# Altium integrated library TI Logic Buffer Line Driver.IntLib: 1053 symbols (part 6 of 17)
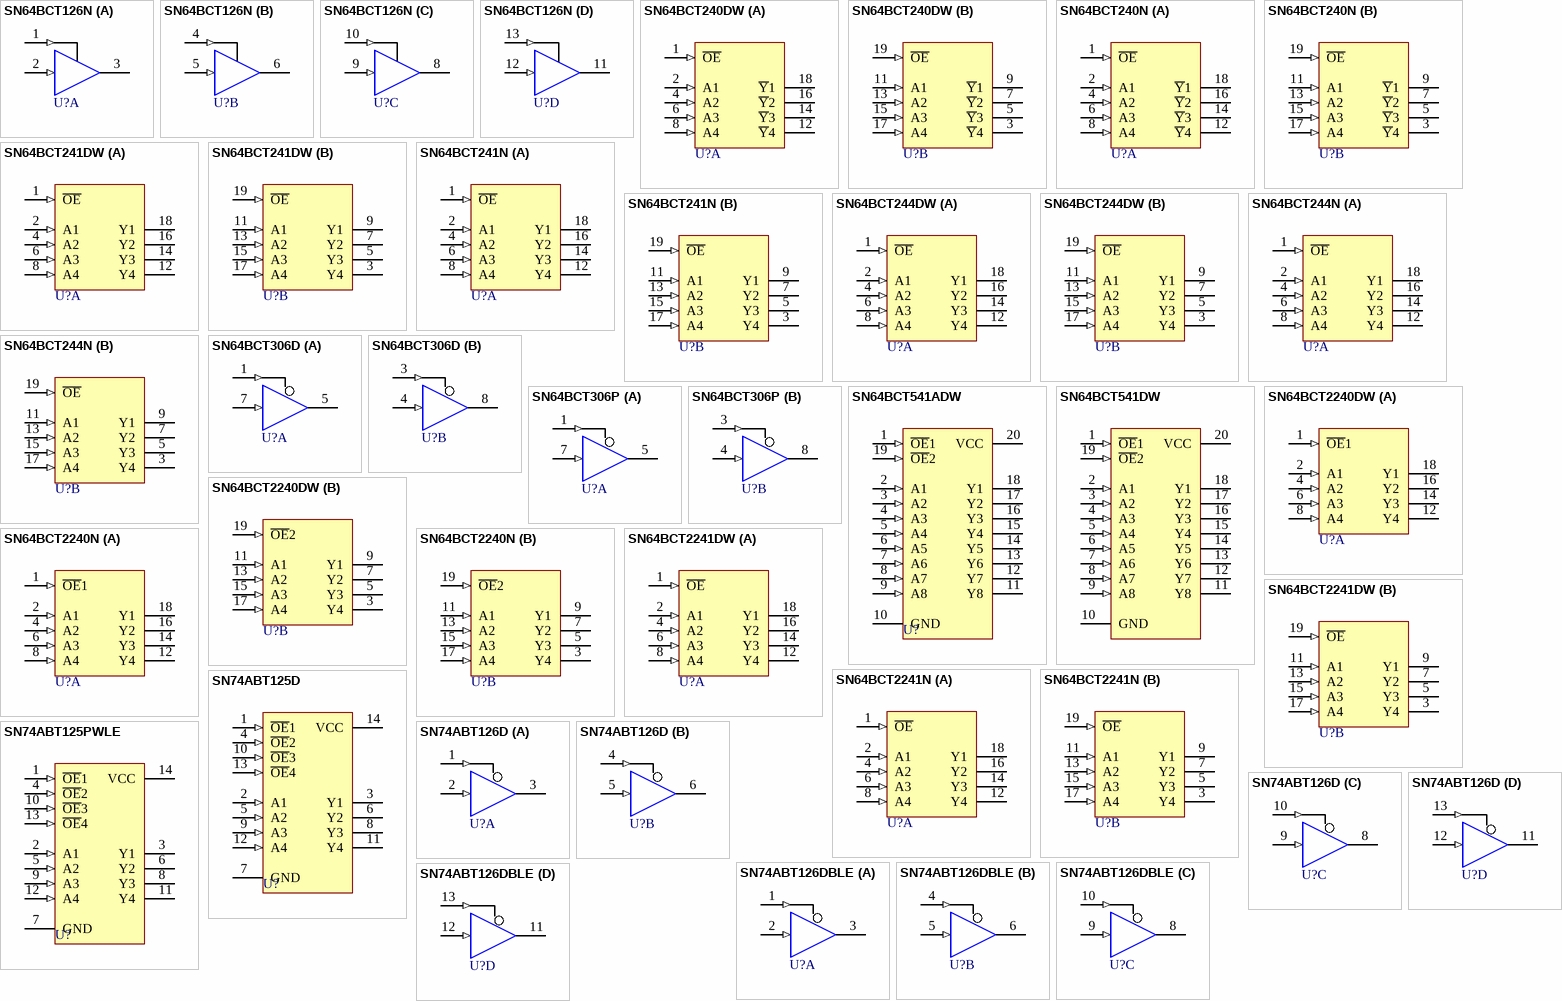
[diagram p50: symbols SN64BCT126N to SN74ABT126DBLE]

## SN64BCT541DW
designator ?
Octal Buffer/Driver with 3-State Outputs; Package Information: Latest Revision: Mar-2000; Code - JEDEC: MS-013; Published: 8-Jun-2000; Revision: 17-Jul-2002: Re-released for DXP Platform.; Datasheet: Latest Revision: Nov-1993; Package Reference: DW020; Publisher: Altium Limited
footprint DW020 (Plastic Small Outline; 20 Leads; Body Width 7.5 mm)
pins: 1 ~{OE}1 (in), 2 A1 (in), 3 A2 (in), 4 A3 (in), 5 A4 (in), 6 A5 (in), 7 A6 (in), 8 A7 (in), 9 A8 (in), 10 GND (power), 11 Y8 (hiz), 12 Y7 (hiz), 13 Y6 (hiz), 14 Y5 (hiz), 15 Y4 (hiz), 16 Y3 (hiz), 17 Y2 (hiz), 18 Y1 (hiz), 19 ~{OE}2 (in), 20 VCC (power)

## SN64BCT2240DW
designator U?
Octal Buffer and Line/MOS Driver with 3-State Outputs; Package Information: Latest Revision: Mar-2000; Code - JEDEC: MS-013; Published: 8-Jun-2000; Revision: 17-Jul-2002: Re-released for DXP Platform.; Datasheet: Latest Revision: Nov-1993; Package Reference: DW020; Publisher: Altium Limited
footprint DW020 (Plastic Small Outline; 20 Leads; Body Width 7.5 mm)
pins on every part: 10 GND (power) hidden to GND, 20 VCC (power) hidden to VCC
part A pins: 1 ~{OE}1 (in), 2 A1 (in), 4 A2 (in), 6 A3 (in), 8 A4 (in), 12 Y4 (hiz), 14 Y3 (hiz), 16 Y2 (hiz), 18 Y1 (hiz)
part B pins: 3 Y4 (hiz), 5 Y3 (hiz), 7 Y2 (hiz), 9 Y1 (hiz), 11 A1 (in), 13 A2 (in), 15 A3 (in), 17 A4 (in), 19 ~{OE}2 (in)

## SN64BCT2240N
designator U?
Octal Buffer and Line/MOS Driver with 3-State Outputs; Package Information: Latest Revision: Oct-1995; Published: 8-Jun-2000; Revision: 17-Jul-2002: Re-released for DXP Platform.; Datasheet: Latest Revision: Nov-1993; Package Reference: N020; Publisher: Altium Limited
footprint N020 (DIP; 20 Leads; Row Spacing 7.62 mm; Pitch 2.54 mm)
pins on every part: 10 GND (power) hidden to GND, 20 VCC (power) hidden to VCC
part A pins: 1 ~{OE}1 (in), 2 A1 (in), 4 A2 (in), 6 A3 (in), 8 A4 (in), 12 Y4 (hiz), 14 Y3 (hiz), 16 Y2 (hiz), 18 Y1 (hiz)
part B pins: 3 Y4 (hiz), 5 Y3 (hiz), 7 Y2 (hiz), 9 Y1 (hiz), 11 A1 (in), 13 A2 (in), 15 A3 (in), 17 A4 (in), 19 ~{OE}2 (in)

## SN64BCT2241DW
designator U?
Octal Buffer and Line/MOS Driver with 3-State Outputs; Package Information: Latest Revision: Mar-2000; Code - JEDEC: MS-013; Published: 8-Jun-2000; Revision: 17-Jul-2002: Re-released for DXP Platform.; Datasheet: Latest Revision: Nov-1993; Package Reference: DW020; Publisher: Altium Limited
footprint DW020 (Plastic Small Outline; 20 Leads; Body Width 7.5 mm)
pins on every part: 10 GND (power) hidden to GND, 20 VCC (power) hidden to VCC
part A pins: 1 ~{OE} (in), 2 A1 (in), 4 A2 (in), 6 A3 (in), 8 A4 (in), 12 Y4 (hiz), 14 Y3 (hiz), 16 Y2 (hiz), 18 Y1 (hiz)
part B pins: 3 Y4 (hiz), 5 Y3 (hiz), 7 Y2 (hiz), 9 Y1 (hiz), 11 A1 (in), 13 A2 (in), 15 A3 (in), 17 A4 (in), 19 ~{OE} (in)

## SN64BCT2241N
designator U?
Octal Buffer and Line/MOS Driver with 3-State Outputs; Package Information: Latest Revision: Oct-1995; Published: 8-Jun-2000; Revision: 17-Jul-2002: Re-released for DXP Platform.; Datasheet: Latest Revision: Nov-1993; Package Reference: N020; Publisher: Altium Limited
footprint N020 (DIP; 20 Leads; Row Spacing 7.62 mm; Pitch 2.54 mm)
pins on every part: 10 GND (power) hidden to GND, 20 VCC (power) hidden to VCC
part A pins: 1 ~{OE} (in), 2 A1 (in), 4 A2 (in), 6 A3 (in), 8 A4 (in), 12 Y4 (hiz), 14 Y3 (hiz), 16 Y2 (hiz), 18 Y1 (hiz)
part B pins: 3 Y4 (hiz), 5 Y3 (hiz), 7 Y2 (hiz), 9 Y1 (hiz), 11 A1 (in), 13 A2 (in), 15 A3 (in), 17 A4 (in), 19 ~{OE} (in)

## SN74ABT125D
designator U?
Quadruple Bus Buffer Gate with 3-State Outputs; Package Information: Latest Revision: Jan-1998; Published: 8-Jun-2000; Revision: 17-Jul-2002: Re-released for DXP Platform.; Datasheet: Latest Revision: May-1997; Package Reference: D014; Publisher: Altium Limited
footprint D014 (Small Outline; 14 Leads; Body Width 3.9 mm; Pitch 1.27 mm)
signal-integrity model SN74ABT125D
pins: 1 ~{OE}1 (in), 2 A1 (in), 3 Y1 (hiz), 4 ~{OE}2 (in), 5 A2 (in), 6 Y2 (hiz), 7 GND (power), 8 Y3 (hiz), 9 A3 (in), 10 ~{OE}3 (in), 11 Y4 (hiz), 12 A4 (in), 13 ~{OE}4 (in), 14 VCC (power)

## SN74ABT125PWLE
designator U?
Quadruple Bus Buffer Gate with 3-State Outputs; Package Information: Latest Revision: Feb-1999; Published: 8-Jun-2000; Revision: 17-Jul-2002: Re-released for DXP Platform.; Datasheet: Latest Revision: May-1997; Package Reference: PW014; Publisher: Altium Limited
footprint PW014 (Shrink Small Outline; 14 Leads; Body Width 4.4 mm; Pitch 0.65 mm)
signal-integrity model SN74ABT125PWLE
pins: 1 ~{OE}1 (in), 2 A1 (in), 3 Y1 (hiz), 4 ~{OE}2 (in), 5 A2 (in), 6 Y2 (hiz), 7 GND (power), 8 Y3 (hiz), 9 A3 (in), 10 ~{OE}3 (in), 11 Y4 (hiz), 12 A4 (in), 13 ~{OE}4 (in), 14 VCC (power)

## SN74ABT126D
designator U?
Quadruple Bus Buffer Gate with 3-State Outputs; Package Information: Latest Revision: Jan-1998; Published: 8-Jun-2000; Revision: 17-Jul-2002: Re-released for DXP Platform.; Datasheet: Latest Revision: Jan-1999; Package Reference: D014; Publisher: Altium Limited
footprint D014 (Small Outline; 14 Leads; Body Width 3.9 mm; Pitch 1.27 mm)
signal-integrity model SN74ABT126D
pins on every part: 7 GND (power) hidden to GND, 14 VCC (power) hidden to VCC
part A pins: 1 OE (in), 2 A (in), 3 Y (hiz)
part B pins: 4 OE (in), 5 A (in), 6 Y (hiz)
part C pins: 8 Y (hiz), 9 A (in), 10 OE (in)
part D pins: 11 Y (hiz), 12 A (in), 13 OE (in)

## SN74ABT126DBLE
designator U?
Quadruple Bus Buffer Gate with 3-State Outputs; Package Information: Latest Revision: May-1999; Code - JEDEC: MO-150-AB; Published: 8-Jun-2000; Revision: 17-Jul-2002: Re-released for DXP Platform.; Datasheet: Latest Revision: Jan-1999; Package Reference: DB014; Publisher: Altium Limited
footprint DB014 (Plastic SSOP; 14 Leads; Body Width 5.3 mm; Pitch 0.65 mm)
signal-integrity model SN74ABT126DBLE
pins on every part: 7 GND (power) hidden to GND, 14 VCC (power) hidden to VCC
part A pins: 1 OE (in), 2 A (in), 3 Y (hiz)
part B pins: 4 OE (in), 5 A (in), 6 Y (hiz)
part C pins: 8 Y (hiz), 9 A (in), 10 OE (in)
part D pins: 11 Y (hiz), 12 A (in), 13 OE (in)

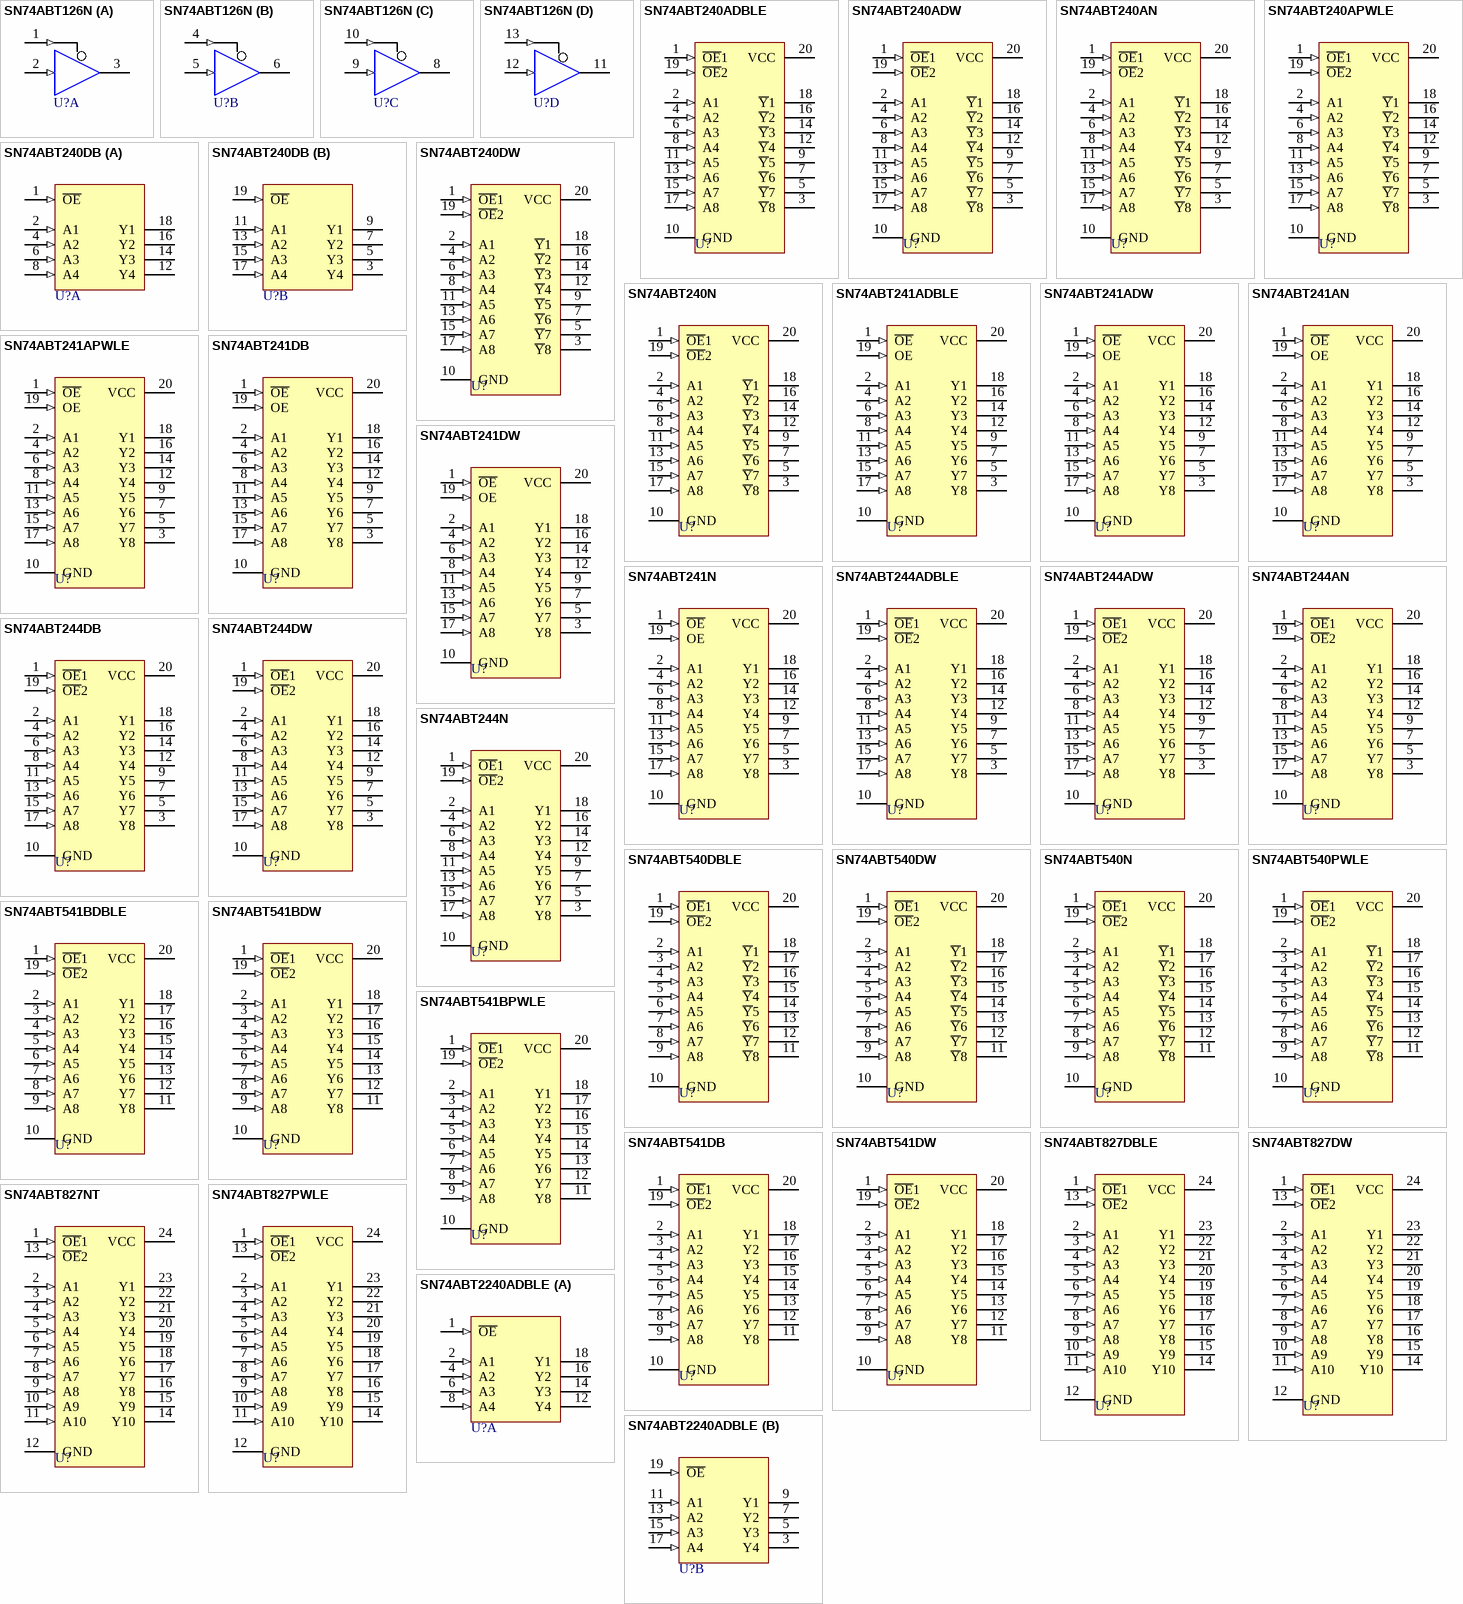
[diagram p15: symbols SN74ABT126N to SN74ABT2240ADBLE]

## SN74ABT126N
designator U?
Quadruple Bus Buffer Gate with 3-State Outputs; Package Information: Latest Revision: Oct-1995; Published: 8-Jun-2000; Revision: 17-Jul-2002: Re-released for DXP Platform.; Datasheet: Latest Revision: Jan-1999; Package Reference: N014; Publisher: Altium Limited
footprint N014 (DIP; 14 Leads; Row Spacing 7.62 mm; Pitch 2.54 mm)
signal-integrity model SN74ABT126N
pins on every part: 7 GND (power) hidden to GND, 14 VCC (power) hidden to VCC
part A pins: 1 OE (in), 2 A (in), 3 Y (hiz)
part B pins: 4 OE (in), 5 A (in), 6 Y (hiz)
part C pins: 8 Y (hiz), 9 A (in), 10 OE (in)
part D pins: 11 Y (hiz), 12 A (in), 13 OE (in)

## SN74ABT240ADBLE
designator U?
Octal Buffer/Driver with 3-State Outputs; Package Information: Latest Revision: May-1999; Code - JEDEC: MO-150-AE; Published: 8-Jun-2000; Revision: 17-Jul-2002: Re-released for DXP Platform.; Datasheet: Latest Revision: Jan-1997; Package Reference: DB020; Publisher: Altium Limited
footprint DB020 (Plastic SSOP; 20 Leads; Body Width 5.3 mm; Pitch 0.65 mm)
signal-integrity model SN74ABT240ADBLE
pins: 1 ~{OE}1 (in), 2 A1 (in), 3 ~{Y}8 (hiz), 4 A2 (in), 5 ~{Y}7 (hiz), 6 A3 (in), 7 ~{Y}6 (hiz), 8 A4 (in), 9 ~{Y}5 (hiz), 10 GND (power), 11 A5 (in), 12 ~{Y}4 (hiz), 13 A6 (in), 14 ~{Y}3 (hiz), 15 A7 (in), 16 ~{Y}2 (hiz), 17 A8 (in), 18 ~{Y}1 (hiz), 19 ~{OE}2 (in), 20 VCC (power)

## SN74ABT240ADW
designator U?
Octal Buffer/Driver with 3-State Outputs; Package Information: Latest Revision: Mar-2000; Code - JEDEC: MS-013; Published: 8-Jun-2000; Revision: 17-Jul-2002: Re-released for DXP Platform.; Datasheet: Latest Revision: Jan-1997; Package Reference: DW020; Publisher: Altium Limited
footprint DW020 (Plastic Small Outline; 20 Leads; Body Width 7.5 mm)
signal-integrity model SN74ABT240ADW
pins: 1 ~{OE}1 (in), 2 A1 (in), 3 ~{Y}8 (hiz), 4 A2 (in), 5 ~{Y}7 (hiz), 6 A3 (in), 7 ~{Y}6 (hiz), 8 A4 (in), 9 ~{Y}5 (hiz), 10 GND (power), 11 A5 (in), 12 ~{Y}4 (hiz), 13 A6 (in), 14 ~{Y}3 (hiz), 15 A7 (in), 16 ~{Y}2 (hiz), 17 A8 (in), 18 ~{Y}1 (hiz), 19 ~{OE}2 (in), 20 VCC (power)

## SN74ABT240AN
designator U?
Octal Buffer/Driver with 3-State Outputs; Package Information: Latest Revision: Oct-1995; Published: 8-Jun-2000; Revision: 17-Jul-2002: Re-released for DXP Platform.; Datasheet: Latest Revision: Jan-1997; Package Reference: N020; Publisher: Altium Limited
footprint N020 (DIP; 20 Leads; Row Spacing 7.62 mm; Pitch 2.54 mm)
signal-integrity model SN74ABT240AN
pins: 1 ~{OE}1 (in), 2 A1 (in), 3 ~{Y}8 (hiz), 4 A2 (in), 5 ~{Y}7 (hiz), 6 A3 (in), 7 ~{Y}6 (hiz), 8 A4 (in), 9 ~{Y}5 (hiz), 10 GND (power), 11 A5 (in), 12 ~{Y}4 (hiz), 13 A6 (in), 14 ~{Y}3 (hiz), 15 A7 (in), 16 ~{Y}2 (hiz), 17 A8 (in), 18 ~{Y}1 (hiz), 19 ~{OE}2 (in), 20 VCC (power)

## SN74ABT240APWLE
designator U?
Octal Buffer/Driver with 3-State Outputs; Package Information: Latest Revision: Feb-1999; Published: 8-Jun-2000; Revision: 17-Jul-2002: Re-released for DXP Platform.; Datasheet: Latest Revision: Jan-1997; Package Reference: PW020; Publisher: Altium Limited
footprint PW020 (Shrink Small Outline; 20 Leads; Body Width 4.4 mm; Pitch 0.65 mm)
signal-integrity model SN74ABT240APWLE
pins: 1 ~{OE}1 (in), 2 A1 (in), 3 ~{Y}8 (hiz), 4 A2 (in), 5 ~{Y}7 (hiz), 6 A3 (in), 7 ~{Y}6 (hiz), 8 A4 (in), 9 ~{Y}5 (hiz), 10 GND (power), 11 A5 (in), 12 ~{Y}4 (hiz), 13 A6 (in), 14 ~{Y}3 (hiz), 15 A7 (in), 16 ~{Y}2 (hiz), 17 A8 (in), 18 ~{Y}1 (hiz), 19 ~{OE}2 (in), 20 VCC (power)

## SN74ABT240DB
designator U?
Octal Buffer/Driver with 3-State Outputs; Package Information: Latest Revision: May-1999; Code - JEDEC: MO-150-AE; Published: 8-Jun-2000; Revision: 17-Jul-2002: Re-released for DXP Platform.; Datasheet: Latest Revision: Jul-1994; Package Reference: DB020; Publisher: Altium Limited
footprint DB020 (Plastic SSOP; 20 Leads; Body Width 5.3 mm; Pitch 0.65 mm)
signal-integrity model SN74ABT240DB
pins on every part: 10 GND (power) hidden to GND, 20 VCC (power) hidden to VCC
part A pins: 1 ~{OE} (in), 2 A1 (in), 4 A2 (in), 6 A3 (in), 8 A4 (in), 12 Y4 (hiz), 14 Y3 (hiz), 16 Y2 (hiz), 18 Y1 (hiz)
part B pins: 3 Y4 (hiz), 5 Y3 (hiz), 7 Y2 (hiz), 9 Y1 (hiz), 11 A1 (in), 13 A2 (in), 15 A3 (in), 17 A4 (in), 19 ~{OE} (in)

## SN74ABT240DW
designator U?
Octal Buffer/Driver with 3-State Outputs; Package Information: Latest Revision: Mar-2000; Code - JEDEC: MS-013; Published: 8-Jun-2000; Revision: 17-Jul-2002: Re-released for DXP Platform.; Datasheet: Latest Revision: Jul-1994; Package Reference: DW020; Publisher: Altium Limited
footprint DW020 (Plastic Small Outline; 20 Leads; Body Width 7.5 mm)
signal-integrity model SN74ABT240DW
pins: 1 ~{OE}1 (in), 2 A1 (in), 3 ~{Y}8 (hiz), 4 A2 (in), 5 ~{Y}7 (hiz), 6 A3 (in), 7 ~{Y}6 (hiz), 8 A4 (in), 9 ~{Y}5 (hiz), 10 GND (power), 11 A5 (in), 12 ~{Y}4 (hiz), 13 A6 (in), 14 ~{Y}3 (hiz), 15 A7 (in), 16 ~{Y}2 (hiz), 17 A8 (in), 18 ~{Y}1 (hiz), 19 ~{OE}2 (in), 20 VCC (power)

## SN74ABT240N
designator U?
Octal Buffer/Driver with 3-State Outputs; Package Information: Latest Revision: Oct-1995; Published: 8-Jun-2000; Revision: 17-Jul-2002: Re-released for DXP Platform.; Datasheet: Latest Revision: Jul-1994; Package Reference: N020; Publisher: Altium Limited
footprint N020 (DIP; 20 Leads; Row Spacing 7.62 mm; Pitch 2.54 mm)
signal-integrity model SN74ABT240N
pins: 1 ~{OE}1 (in), 2 A1 (in), 3 ~{Y}8 (hiz), 4 A2 (in), 5 ~{Y}7 (hiz), 6 A3 (in), 7 ~{Y}6 (hiz), 8 A4 (in), 9 ~{Y}5 (hiz), 10 GND (power), 11 A5 (in), 12 ~{Y}4 (hiz), 13 A6 (in), 14 ~{Y}3 (hiz), 15 A7 (in), 16 ~{Y}2 (hiz), 17 A8 (in), 18 ~{Y}1 (hiz), 19 ~{OE}2 (in), 20 VCC (power)

## SN74ABT241ADBLE
designator U?
Octal Buffer/Driver with 3-State Outputs; Package Information: Latest Revision: May-1999; Code - JEDEC: MO-150-AE; Published: 8-Jun-2000; Revision: 17-Jul-2002: Re-released for DXP Platform.; Datasheet: Latest Revision: Jan-1997; Package Reference: DB020; Publisher: Altium Limited
footprint DB020 (Plastic SSOP; 20 Leads; Body Width 5.3 mm; Pitch 0.65 mm)
signal-integrity model SN74ABT241ADBLE
pins: 1 ~{OE}  (in), 2 A1 (in), 3 Y8 (hiz), 4 A2 (in), 5 Y7 (hiz), 6 A3 (in), 7 Y6 (hiz), 8 A4 (in), 9 Y5 (hiz), 10 GND (power), 11 A5 (in), 12 Y4 (hiz), 13 A6  (in), 14 Y3 (hiz), 15 A7  (in), 16 Y2 (hiz), 17 A8 (in), 18 Y1 (hiz), 19 OE (in), 20 VCC (power)

## SN74ABT241ADW
designator U?
Octal Buffer/Driver with 3-State Outputs; Package Information: Latest Revision: Mar-2000; Code - JEDEC: MS-013; Published: 8-Jun-2000; Revision: 17-Jul-2002: Re-released for DXP Platform.; Datasheet: Latest Revision: Jan-1997; Package Reference: DW020; Publisher: Altium Limited
footprint DW020 (Plastic Small Outline; 20 Leads; Body Width 7.5 mm)
signal-integrity model SN74ABT241ADW
pins: 1 ~{OE}  (in), 2 A1 (in), 3 Y8 (hiz), 4 A2 (in), 5 Y7 (hiz), 6 A3 (in), 7 Y6 (hiz), 8 A4 (in), 9 Y5 (hiz), 10 GND (power), 11 A5 (in), 12 Y4 (hiz), 13 A6  (in), 14 Y3 (hiz), 15 A7  (in), 16 Y2 (hiz), 17 A8 (in), 18 Y1 (hiz), 19 OE (in), 20 VCC (power)

## SN74ABT241AN
designator U?
Octal Buffer/Driver with 3-State Outputs; Package Information: Latest Revision: Oct-1995; Published: 8-Jun-2000; Revision: 17-Jul-2002: Re-released for DXP Platform.; Datasheet: Latest Revision: Jan-1997; Package Reference: N020; Publisher: Altium Limited
footprint N020 (DIP; 20 Leads; Row Spacing 7.62 mm; Pitch 2.54 mm)
signal-integrity model SN74ABT241AN
pins: 1 ~{OE}  (in), 2 A1 (in), 3 Y8 (hiz), 4 A2 (in), 5 Y7 (hiz), 6 A3 (in), 7 Y6 (hiz), 8 A4 (in), 9 Y5 (hiz), 10 GND (power), 11 A5 (in), 12 Y4 (hiz), 13 A6  (in), 14 Y3 (hiz), 15 A7  (in), 16 Y2 (hiz), 17 A8 (in), 18 Y1 (hiz), 19 OE (in), 20 VCC (power)

## SN74ABT241APWLE
designator U?
Octal Buffer/Driver with 3-State Outputs; Package Information: Latest Revision: Feb-1999; Published: 8-Jun-2000; Revision: 17-Jul-2002: Re-released for DXP Platform.; Datasheet: Latest Revision: Jan-1997; Package Reference: PW020; Publisher: Altium Limited
footprint PW020 (Shrink Small Outline; 20 Leads; Body Width 4.4 mm; Pitch 0.65 mm)
signal-integrity model SN74ABT241APWLE
pins: 1 ~{OE}  (in), 2 A1 (in), 3 Y8 (hiz), 4 A2 (in), 5 Y7 (hiz), 6 A3 (in), 7 Y6 (hiz), 8 A4 (in), 9 Y5 (hiz), 10 GND (power), 11 A5 (in), 12 Y4 (hiz), 13 A6  (in), 14 Y3 (hiz), 15 A7  (in), 16 Y2 (hiz), 17 A8 (in), 18 Y1 (hiz), 19 OE (in), 20 VCC (power)

## SN74ABT241DB
designator U?
Octal Buffer/Driver with 3-State Outputs; Package Information: Latest Revision: May-1999; Code - JEDEC: MO-150-AE; Published: 8-Jun-2000; Revision: 17-Jul-2002: Re-released for DXP Platform.; Datasheet: Latest Revision: Jul-1994; Package Reference: DB020; Publisher: Altium Limited
footprint DB020 (Plastic SSOP; 20 Leads; Body Width 5.3 mm; Pitch 0.65 mm)
signal-integrity model SN74ABT241DB
pins: 1 ~{OE}  (in), 2 A1 (in), 3 Y8 (hiz), 4 A2 (in), 5 Y7 (hiz), 6 A3 (in), 7 Y6 (hiz), 8 A4 (in), 9 Y5 (hiz), 10 GND (power), 11 A5 (in), 12 Y4 (hiz), 13 A6  (in), 14 Y3 (hiz), 15 A7  (in), 16 Y2 (hiz), 17 A8 (in), 18 Y1 (hiz), 19 OE (in), 20 VCC (power)

## SN74ABT241DW
designator U?
Octal Buffer/Driver with 3-State Outputs; Package Information: Latest Revision: Mar-2000; Code - JEDEC: MS-013; Published: 8-Jun-2000; Revision: 17-Jul-2002: Re-released for DXP Platform.; Datasheet: Latest Revision: Jul-1994; Package Reference: DW020; Publisher: Altium Limited
footprint DW020 (Plastic Small Outline; 20 Leads; Body Width 7.5 mm)
signal-integrity model SN74ABT241DW
pins: 1 ~{OE}  (in), 2 A1 (in), 3 Y8 (hiz), 4 A2 (in), 5 Y7 (hiz), 6 A3 (in), 7 Y6 (hiz), 8 A4 (in), 9 Y5 (hiz), 10 GND (power), 11 A5 (in), 12 Y4 (hiz), 13 A6  (in), 14 Y3 (hiz), 15 A7  (in), 16 Y2 (hiz), 17 A8 (in), 18 Y1 (hiz), 19 OE (in), 20 VCC (power)

## SN74ABT241N
designator U?
Octal Buffer/Driver with 3-State Outputs; Package Information: Latest Revision: Oct-1995; Published: 8-Jun-2000; Revision: 17-Jul-2002: Re-released for DXP Platform.; Datasheet: Latest Revision: Jul-1994; Package Reference: N020; Publisher: Altium Limited
footprint N020 (DIP; 20 Leads; Row Spacing 7.62 mm; Pitch 2.54 mm)
signal-integrity model SN74ABT241N
pins: 1 ~{OE}  (in), 2 A1 (in), 3 Y8 (hiz), 4 A2 (in), 5 Y7 (hiz), 6 A3 (in), 7 Y6 (hiz), 8 A4 (in), 9 Y5 (hiz), 10 GND (power), 11 A5 (in), 12 Y4 (hiz), 13 A6  (in), 14 Y3 (hiz), 15 A7  (in), 16 Y2 (hiz), 17 A8 (in), 18 Y1 (hiz), 19 OE (in), 20 VCC (power)

## SN74ABT244ADBLE
designator U?
Octal Buffer/Driver with 3-State Outputs; Package Information: Latest Revision: May-1999; Code - JEDEC: MO-150-AE; Published: 8-Jun-2000; Revision: 17-Jul-2002: Re-released for DXP Platform.; Datasheet: Latest Revision: Jan-1997; Package Reference: DB020; Publisher: Altium Limited
footprint DB020 (Plastic SSOP; 20 Leads; Body Width 5.3 mm; Pitch 0.65 mm)
signal-integrity model SN74ABT244ADBLE
pins: 1 ~{OE}1 (in), 2 A1 (in), 3 Y8 (hiz), 4 A2 (in), 5 Y7 (hiz), 6 A3 (in), 7 Y6 (hiz), 8 A4 (in), 9 Y5 (hiz), 10 GND (power), 11 A5 (in), 12 Y4 (hiz), 13 A6 (in), 14 Y3 (hiz), 15 A7 (in), 16 Y2 (hiz), 17 A8 (in), 18 Y1 (hiz), 19 ~{OE}2 (in), 20 VCC (power)

## SN74ABT244ADW
designator U?
Octal Buffer/Driver with 3-State Outputs; Package Information: Latest Revision: Mar-2000; Code - JEDEC: MS-013; Published: 8-Jun-2000; Revision: 17-Jul-2002: Re-released for DXP Platform.; Datasheet: Latest Revision: Jan-1997; Package Reference: DW020; Publisher: Altium Limited
footprint DW020 (Plastic Small Outline; 20 Leads; Body Width 7.5 mm)
signal-integrity model SN74ABT244ADW
pins: 1 ~{OE}1 (in), 2 A1 (in), 3 Y8 (hiz), 4 A2 (in), 5 Y7 (hiz), 6 A3 (in), 7 Y6 (hiz), 8 A4 (in), 9 Y5 (hiz), 10 GND (power), 11 A5 (in), 12 Y4 (hiz), 13 A6 (in), 14 Y3 (hiz), 15 A7 (in), 16 Y2 (hiz), 17 A8 (in), 18 Y1 (hiz), 19 ~{OE}2 (in), 20 VCC (power)

## SN74ABT244AN
designator U?
Octal Buffer/Driver with 3-State Outputs; Package Information: Latest Revision: Oct-1995; Published: 8-Jun-2000; Revision: 17-Jul-2002: Re-released for DXP Platform.; Datasheet: Latest Revision: Jan-1997; Package Reference: N020; Publisher: Altium Limited
footprint N020 (DIP; 20 Leads; Row Spacing 7.62 mm; Pitch 2.54 mm)
signal-integrity model SN74ABT244AN
pins: 1 ~{OE}1 (in), 2 A1 (in), 3 Y8 (hiz), 4 A2 (in), 5 Y7 (hiz), 6 A3 (in), 7 Y6 (hiz), 8 A4 (in), 9 Y5 (hiz), 10 GND (power), 11 A5 (in), 12 Y4 (hiz), 13 A6 (in), 14 Y3 (hiz), 15 A7 (in), 16 Y2 (hiz), 17 A8 (in), 18 Y1 (hiz), 19 ~{OE}2 (in), 20 VCC (power)

## SN74ABT244DB
designator U?
Octal Buffer/Driver with 3-State Outputs; Package Information: Latest Revision: May-1999; Code - JEDEC: MO-150-AE; Published: 8-Jun-2000; Revision: 17-Jul-2002: Re-released for DXP Platform.; Datasheet: Latest Revision: Jul-1994; Package Reference: DB020; Publisher: Altium Limited
footprint DB020 (Plastic SSOP; 20 Leads; Body Width 5.3 mm; Pitch 0.65 mm)
signal-integrity model SN74ABT244DB
pins: 1 ~{OE}1 (in), 2 A1 (in), 3 Y8 (hiz), 4 A2 (in), 5 Y7 (hiz), 6 A3 (in), 7 Y6 (hiz), 8 A4 (in), 9 Y5 (hiz), 10 GND (power), 11 A5 (in), 12 Y4 (hiz), 13 A6 (in), 14 Y3 (hiz), 15 A7 (in), 16 Y2 (hiz), 17 A8 (in), 18 Y1 (hiz), 19 ~{OE}2 (in), 20 VCC (power)

## SN74ABT244DW
designator U?
Octal Buffer/Driver with 3-State Outputs; Package Information: Latest Revision: Mar-2000; Code - JEDEC: MS-013; Published: 8-Jun-2000; Revision: 17-Jul-2002: Re-released for DXP Platform.; Datasheet: Latest Revision: Jul-1994; Package Reference: DW020; Publisher: Altium Limited
footprint DW020 (Plastic Small Outline; 20 Leads; Body Width 7.5 mm)
signal-integrity model SN74ABT244DW
pins: 1 ~{OE}1 (in), 2 A1 (in), 3 Y8 (hiz), 4 A2 (in), 5 Y7 (hiz), 6 A3 (in), 7 Y6 (hiz), 8 A4 (in), 9 Y5 (hiz), 10 GND (power), 11 A5 (in), 12 Y4 (hiz), 13 A6 (in), 14 Y3 (hiz), 15 A7 (in), 16 Y2 (hiz), 17 A8 (in), 18 Y1 (hiz), 19 ~{OE}2 (in), 20 VCC (power)

## SN74ABT244N
designator U?
Octal Buffer/Driver with 3-State Outputs; Package Information: Latest Revision: Oct-1995; Published: 8-Jun-2000; Revision: 17-Jul-2002: Re-released for DXP Platform.; Datasheet: Latest Revision: Jul-1994; Package Reference: N020; Publisher: Altium Limited
footprint N020 (DIP; 20 Leads; Row Spacing 7.62 mm; Pitch 2.54 mm)
signal-integrity model SN74ABT244N
pins: 1 ~{OE}1 (in), 2 A1 (in), 3 Y8 (hiz), 4 A2 (in), 5 Y7 (hiz), 6 A3 (in), 7 Y6 (hiz), 8 A4 (in), 9 Y5 (hiz), 10 GND (power), 11 A5 (in), 12 Y4 (hiz), 13 A6 (in), 14 Y3 (hiz), 15 A7 (in), 16 Y2 (hiz), 17 A8 (in), 18 Y1 (hiz), 19 ~{OE}2 (in), 20 VCC (power)

## SN74ABT540DBLE
designator U?
Octal Buffer/Driver with 3-State Outputs; Package Information: Latest Revision: May-1999; Code - JEDEC: MO-150-AE; Published: 8-Jun-2000; Revision: 17-Jul-2002: Re-released for DXP Platform.; Datasheet: Latest Revision: Jan-1997; Package Reference: DB020; Publisher: Altium Limited
footprint DB020 (Plastic SSOP; 20 Leads; Body Width 5.3 mm; Pitch 0.65 mm)
signal-integrity model SN74ABT540DBLE
pins: 1 ~{OE}1 (in), 2 A1 (in), 3 A2 (in), 4 A3 (in), 5 A4 (in), 6 A5 (in), 7 A6 (in), 8 A7 (in), 9 A8 (in), 10 GND (power), 11 ~{Y}8 (hiz), 12 ~{Y}7 (hiz), 13 ~{Y}6 (hiz), 14 ~{Y}5 (hiz), 15 ~{Y}4 (hiz), 16 ~{Y}3 (hiz), 17 ~{Y}2 (hiz), 18 ~{Y}1 (hiz), 19 ~{OE}2 (in), 20 VCC (power)

## SN74ABT540DW
designator U?
Octal Buffer/Driver with 3-State Outputs; Package Information: Latest Revision: Mar-2000; Code - JEDEC: MS-013; Published: 8-Jun-2000; Revision: 17-Jul-2002: Re-released for DXP Platform.; Datasheet: Latest Revision: Jan-1997; Package Reference: DW020; Publisher: Altium Limited
footprint DW020 (Plastic Small Outline; 20 Leads; Body Width 7.5 mm)
signal-integrity model SN74ABT540DW
pins: 1 ~{OE}1 (in), 2 A1 (in), 3 A2 (in), 4 A3 (in), 5 A4 (in), 6 A5 (in), 7 A6 (in), 8 A7 (in), 9 A8 (in), 10 GND (power), 11 ~{Y}8 (hiz), 12 ~{Y}7 (hiz), 13 ~{Y}6 (hiz), 14 ~{Y}5 (hiz), 15 ~{Y}4 (hiz), 16 ~{Y}3 (hiz), 17 ~{Y}2 (hiz), 18 ~{Y}1 (hiz), 19 ~{OE}2 (in), 20 VCC (power)

## SN74ABT540N
designator U?
Octal Buffer/Driver with 3-State Outputs; Package Information: Latest Revision: Oct-1995; Published: 8-Jun-2000; Revision: 17-Jul-2002: Re-released for DXP Platform.; Datasheet: Latest Revision: Jan-1997; Package Reference: N020; Publisher: Altium Limited
footprint N020 (DIP; 20 Leads; Row Spacing 7.62 mm; Pitch 2.54 mm)
signal-integrity model SN74ABT540N
pins: 1 ~{OE}1 (in), 2 A1 (in), 3 A2 (in), 4 A3 (in), 5 A4 (in), 6 A5 (in), 7 A6 (in), 8 A7 (in), 9 A8 (in), 10 GND (power), 11 ~{Y}8 (hiz), 12 ~{Y}7 (hiz), 13 ~{Y}6 (hiz), 14 ~{Y}5 (hiz), 15 ~{Y}4 (hiz), 16 ~{Y}3 (hiz), 17 ~{Y}2 (hiz), 18 ~{Y}1 (hiz), 19 ~{OE}2 (in), 20 VCC (power)

## SN74ABT540PWLE
designator U?
Octal Buffer/Driver with 3-State Outputs; Package Information: Latest Revision: Feb-1999; Published: 8-Jun-2000; Revision: 17-Jul-2002: Re-released for DXP Platform.; Datasheet: Latest Revision: Jan-1997; Package Reference: PW020; Publisher: Altium Limited
footprint PW020 (Shrink Small Outline; 20 Leads; Body Width 4.4 mm; Pitch 0.65 mm)
signal-integrity model SN74ABT540PWLE
pins: 1 ~{OE}1 (in), 2 A1 (in), 3 A2 (in), 4 A3 (in), 5 A4 (in), 6 A5 (in), 7 A6 (in), 8 A7 (in), 9 A8 (in), 10 GND (power), 11 ~{Y}8 (hiz), 12 ~{Y}7 (hiz), 13 ~{Y}6 (hiz), 14 ~{Y}5 (hiz), 15 ~{Y}4 (hiz), 16 ~{Y}3 (hiz), 17 ~{Y}2 (hiz), 18 ~{Y}1 (hiz), 19 ~{OE}2 (in), 20 VCC (power)

## SN74ABT541BDBLE
designator U?
Octal Buffer/Driver with 3-State Outputs; Package Information: Latest Revision: May-1999; Code - JEDEC: MO-150-AE; Published: 8-Jun-2000; Revision: 17-Jul-2002: Re-released for DXP Platform.; Datasheet: Latest Revision: Oct-1998; Package Reference: DB020; Publisher: Altium Limited
footprint DB020 (Plastic SSOP; 20 Leads; Body Width 5.3 mm; Pitch 0.65 mm)
signal-integrity model SN74ABT541BDBLE
pins: 1 ~{OE}1 (in), 2 A1 (in), 3 A2 (in), 4 A3 (in), 5 A4 (in), 6 A5 (in), 7 A6 (in), 8 A7 (in), 9 A8 (in), 10 GND (power), 11 Y8 (hiz), 12 Y7 (hiz), 13 Y6 (hiz), 14 Y5 (hiz), 15 Y4 (hiz), 16 Y3 (hiz), 17 Y2 (hiz), 18 Y1 (hiz), 19 ~{OE}2 (in), 20 VCC (power)

## SN74ABT541BDW
designator U?
Octal Buffer/Driver with 3-State Outputs; Package Information: Latest Revision: Mar-2000; Code - JEDEC: MS-013; Published: 8-Jun-2000; Revision: 17-Jul-2002: Re-released for DXP Platform.; Datasheet: Latest Revision: Oct-1998; Package Reference: DW020; Publisher: Altium Limited
footprint DW020 (Plastic Small Outline; 20 Leads; Body Width 7.5 mm)
signal-integrity model SN74ABT541BDW
pins: 1 ~{OE}1 (in), 2 A1 (in), 3 A2 (in), 4 A3 (in), 5 A4 (in), 6 A5 (in), 7 A6 (in), 8 A7 (in), 9 A8 (in), 10 GND (power), 11 Y8 (hiz), 12 Y7 (hiz), 13 Y6 (hiz), 14 Y5 (hiz), 15 Y4 (hiz), 16 Y3 (hiz), 17 Y2 (hiz), 18 Y1 (hiz), 19 ~{OE}2 (in), 20 VCC (power)

## SN74ABT541BPWLE
designator U?
Octal Buffer/Driver with 3-State Outputs; Package Information: Latest Revision: Feb-1999; Published: 8-Jun-2000; Revision: 17-Jul-2002: Re-released for DXP Platform.; Datasheet: Latest Revision: Oct-1998; Package Reference: PW020; Publisher: Altium Limited
footprint PW020 (Shrink Small Outline; 20 Leads; Body Width 4.4 mm; Pitch 0.65 mm)
signal-integrity model SN74ABT541BPWLE
pins: 1 ~{OE}1 (in), 2 A1 (in), 3 A2 (in), 4 A3 (in), 5 A4 (in), 6 A5 (in), 7 A6 (in), 8 A7 (in), 9 A8 (in), 10 GND (power), 11 Y8 (hiz), 12 Y7 (hiz), 13 Y6 (hiz), 14 Y5 (hiz), 15 Y4 (hiz), 16 Y3 (hiz), 17 Y2 (hiz), 18 Y1 (hiz), 19 ~{OE}2 (in), 20 VCC (power)

## SN74ABT541DB
designator U?
Octal Buffer/Driver with 3-State Outputs; Package Information: Latest Revision: May-1999; Code - JEDEC: MO-150-AE; Published: 8-Jun-2000; Revision: 17-Jul-2002: Re-released for DXP Platform.; Datasheet: Latest Revision: Jul-1994; Package Reference: DB020; Publisher: Altium Limited
footprint DB020 (Plastic SSOP; 20 Leads; Body Width 5.3 mm; Pitch 0.65 mm)
signal-integrity model SN74ABT541DB
pins: 1 ~{OE}1 (in), 2 A1 (in), 3 A2 (in), 4 A3 (in), 5 A4 (in), 6 A5 (in), 7 A6 (in), 8 A7 (in), 9 A8 (in), 10 GND (power), 11 Y8 (hiz), 12 Y7 (hiz), 13 Y6 (hiz), 14 Y5 (hiz), 15 Y4 (hiz), 16 Y3 (hiz), 17 Y2 (hiz), 18 Y1 (hiz), 19 ~{OE}2 (in), 20 VCC (power)

## SN74ABT541DW
designator U?
Octal Buffer/Driver with 3-State Outputs; Package Information: Latest Revision: Mar-2000; Code - JEDEC: MS-013; Published: 8-Jun-2000; Revision: 17-Jul-2002: Re-released for DXP Platform.; Datasheet: Latest Revision: Jul-1994; Package Reference: DW020; Publisher: Altium Limited
footprint DW020 (Plastic Small Outline; 20 Leads; Body Width 7.5 mm)
signal-integrity model SN74ABT541DW
pins: 1 ~{OE}1 (in), 2 A1 (in), 3 A2 (in), 4 A3 (in), 5 A4 (in), 6 A5 (in), 7 A6 (in), 8 A7 (in), 9 A8 (in), 10 GND (power), 11 Y8 (hiz), 12 Y7 (hiz), 13 Y6 (hiz), 14 Y5 (hiz), 15 Y4 (hiz), 16 Y3 (hiz), 17 Y2 (hiz), 18 Y1 (hiz), 19 ~{OE}2 (in), 20 VCC (power)

## SN74ABT827DBLE
designator U?
10-Bit Buffer/Driver with 3-State Outputs; Package Information: Latest Revision: May-1999; Code - JEDEC: MO-150-AG; Published: 8-Jun-2000; Revision: 17-Jul-2002: Re-released for DXP Platform.; Datasheet: Latest Revision: May-1997; Package Reference: DB024; Publisher: Altium Limited
footprint DB024 (Plastic SSOP; 24 Leads; Body Width 5.3 mm; Pitch 0.65 mm)
signal-integrity model SN74ABT827DBLE
pins: 1 ~{OE}1 (in), 2 A1 (in), 3 A2 (in), 4 A3 (in), 5 A4 (in), 6 A5 (in), 7 A6 (in), 8 A7 (in), 9 A8 (in), 10 A9 (in), 11 A10 (in), 12 GND (power), 13 ~{OE}2 (in), 14 Y10 (hiz), 15 Y9 (hiz), 16 Y8 (hiz), 17 Y7 (hiz), 18 Y6 (hiz), 19 Y5 (hiz), 20 Y4 (hiz), 21 Y3 (hiz), 22 Y2 (hiz), 23 Y1 (hiz), 24 VCC (power)

## SN74ABT827DW
designator U?
10-Bit Buffer/Driver with 3-State Outputs; Package Information: Latest Revision: Mar-2000; Code - JEDEC: MS-013; Published: 8-Jun-2000; Revision: 17-Jul-2002: Re-released for DXP Platform.; Datasheet: Latest Revision: May-1997; Package Reference: DW024; Publisher: Altium Limited
footprint DW024 (Plastic Small Outline; 24 Leads; Body Width 7.5 mm)
signal-integrity model SN74ABT827DW
pins: 1 ~{OE}1 (in), 2 A1 (in), 3 A2 (in), 4 A3 (in), 5 A4 (in), 6 A5 (in), 7 A6 (in), 8 A7 (in), 9 A8 (in), 10 A9 (in), 11 A10 (in), 12 GND (power), 13 ~{OE}2 (in), 14 Y10 (hiz), 15 Y9 (hiz), 16 Y8 (hiz), 17 Y7 (hiz), 18 Y6 (hiz), 19 Y5 (hiz), 20 Y4 (hiz), 21 Y3 (hiz), 22 Y2 (hiz), 23 Y1 (hiz), 24 VCC (power)

## SN74ABT827NT
designator U?
10-Bit Buffer/Driver with 3-State Outputs; Package Information: Latest Revision: Oct-1994; Code - JEDEC: MS-001-AF; Published: 8-Jun-2000; Revision: 17-Jul-2002: Re-released for DXP Platform.; Datasheet: Latest Revision: May-1997; Package Reference: NT024; Publisher: Altium Limited
footprint NT024 (DIP; 24 Leads; Row Spacing 7.62 mm; Pitch 2.54 mm)
signal-integrity model SN74ABT827NT
pins: 1 ~{OE}1 (in), 2 A1 (in), 3 A2 (in), 4 A3 (in), 5 A4 (in), 6 A5 (in), 7 A6 (in), 8 A7 (in), 9 A8 (in), 10 A9 (in), 11 A10 (in), 12 GND (power), 13 ~{OE}2 (in), 14 Y10 (hiz), 15 Y9 (hiz), 16 Y8 (hiz), 17 Y7 (hiz), 18 Y6 (hiz), 19 Y5 (hiz), 20 Y4 (hiz), 21 Y3 (hiz), 22 Y2 (hiz), 23 Y1 (hiz), 24 VCC (power)

## SN74ABT827PWLE
designator U?
10-Bit Buffer/Driver with 3-State Outputs; Package Information: Latest Revision: Feb-1999; Published: 8-Jun-2000; Revision: 17-Jul-2002: Re-released for DXP Platform.; Datasheet: Latest Revision: May-1997; Package Reference: PW024; Publisher: Altium Limited
footprint PW024 (Shrink Small Outline; 24 Leads; Body Width 4.4 mm; Pitch 0.65 mm)
signal-integrity model SN74ABT827PWLE
pins: 1 ~{OE}1 (in), 2 A1 (in), 3 A2 (in), 4 A3 (in), 5 A4 (in), 6 A5 (in), 7 A6 (in), 8 A7 (in), 9 A8 (in), 10 A9 (in), 11 A10 (in), 12 GND (power), 13 ~{OE}2 (in), 14 Y10 (hiz), 15 Y9 (hiz), 16 Y8 (hiz), 17 Y7 (hiz), 18 Y6 (hiz), 19 Y5 (hiz), 20 Y4 (hiz), 21 Y3 (hiz), 22 Y2 (hiz), 23 Y1 (hiz), 24 VCC (power)

## SN74ABT2240ADBLE
designator U?
Octal Buffer and Line/MOS Driver with 3-State Outputs; Package Information: Latest Revision: May-1999; Code - JEDEC: MO-150-AE; Published: 8-Jun-2000; Revision: 17-Jul-2002: Re-released for DXP Platform.; Datasheet: Latest Revision: Oct-1998; Package Reference: DB020; Publisher: Altium Limited
footprint DB020 (Plastic SSOP; 20 Leads; Body Width 5.3 mm; Pitch 0.65 mm)
signal-integrity model SN74ABT2240ADBLE
pins on every part: 10 GND (power) hidden to GND, 20 VCC (power) hidden to VCC
part A pins: 1 ~{OE} (in), 2 A1 (in), 4 A2 (in), 6 A3 (in), 8 A4 (in), 12 Y4 (hiz), 14 Y3 (hiz), 16 Y2 (hiz), 18 Y1 (hiz)
part B pins: 3 Y4 (hiz), 5 Y3 (hiz), 7 Y2 (hiz), 9 Y1 (hiz), 11 A1 (in), 13 A2 (in), 15 A3 (in), 17 A4 (in), 19 ~{OE} (in)

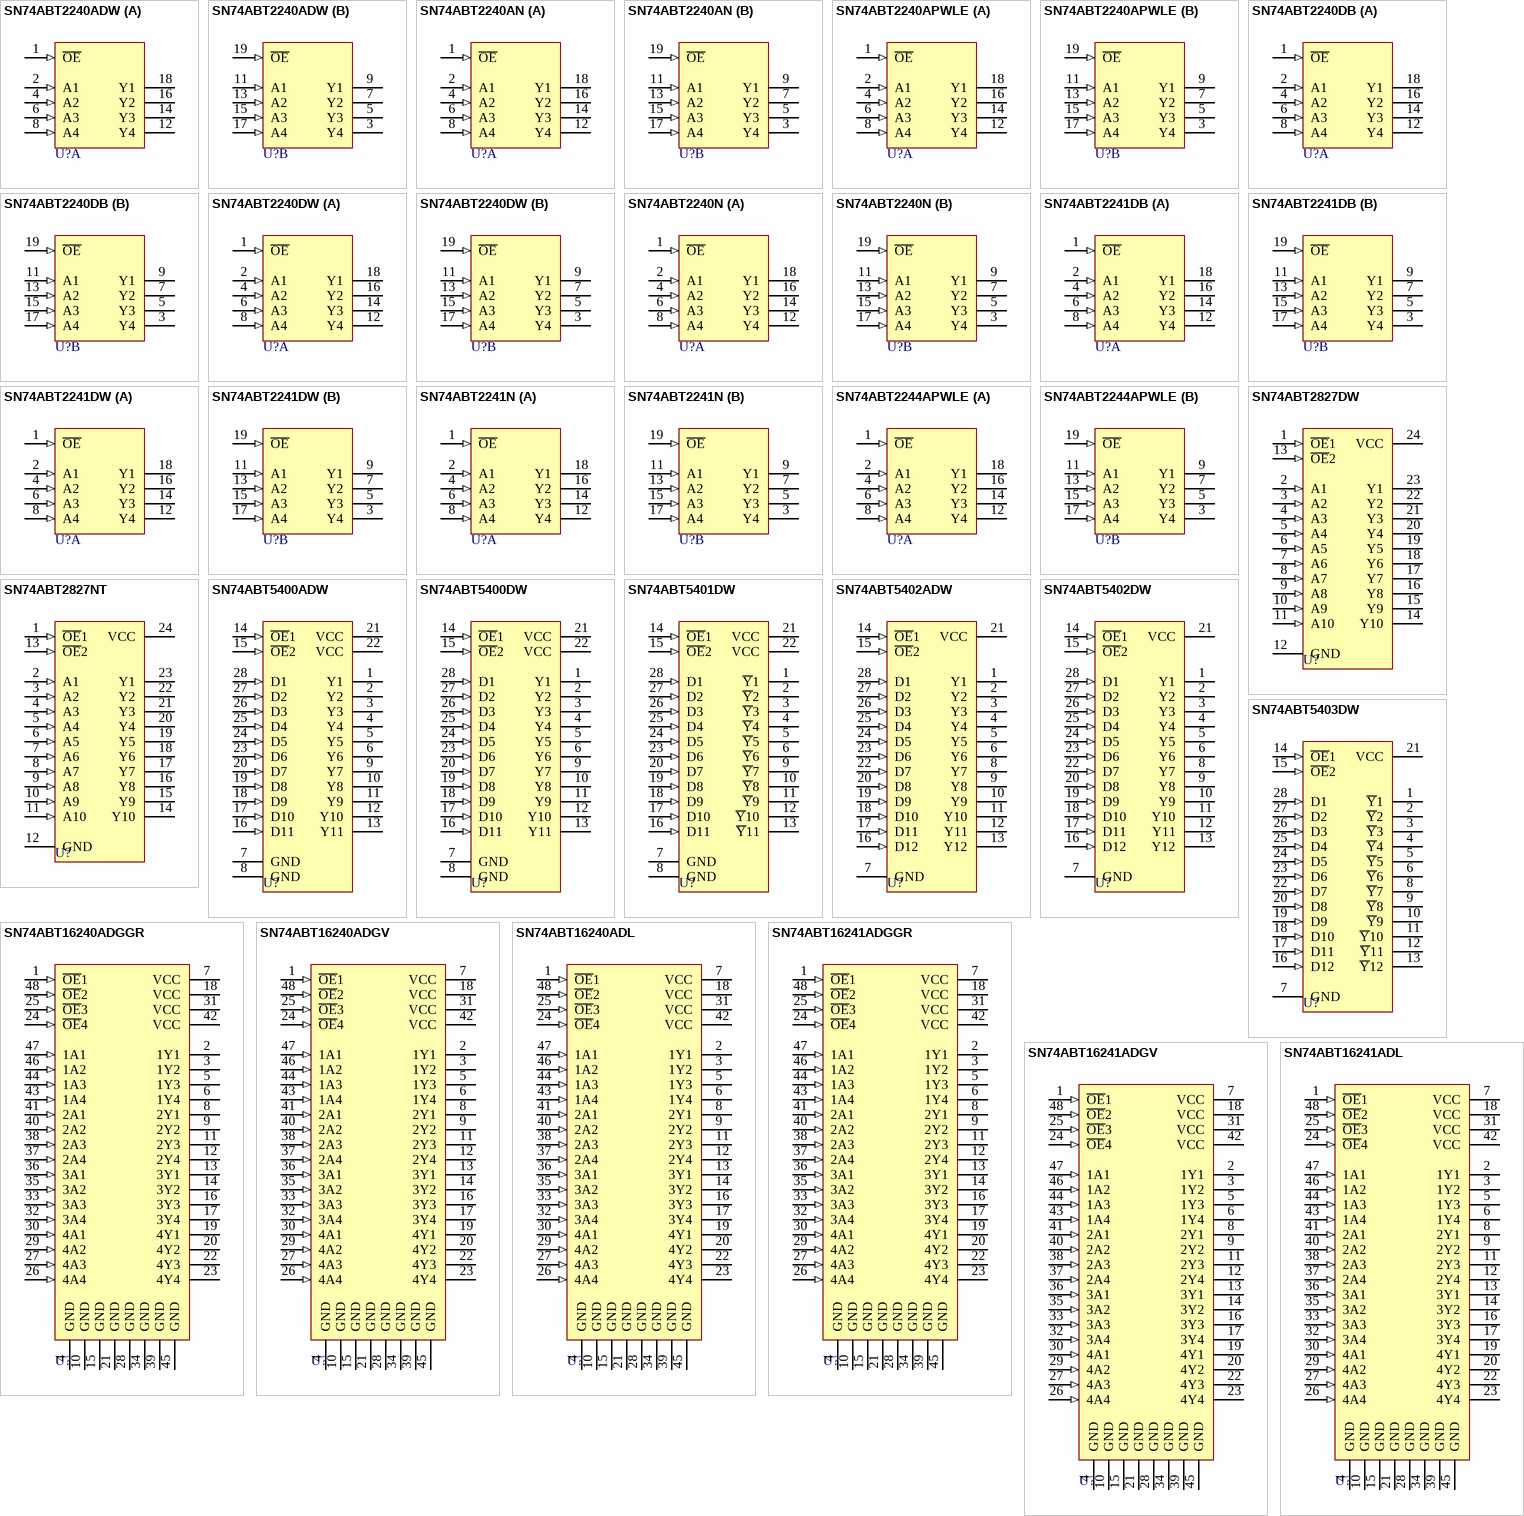
[diagram p16: symbols SN74ABT2240ADW to SN74ABT16241ADL]

## SN74ABT2240ADW
designator U?
Octal Buffer and Line/MOS Driver with 3-State Outputs; Package Information: Latest Revision: Mar-2000; Code - JEDEC: MS-013; Published: 8-Jun-2000; Revision: 17-Jul-2002: Re-released for DXP Platform.; Datasheet: Latest Revision: Oct-1998; Package Reference: DW020; Publisher: Altium Limited
footprint DW020 (Plastic Small Outline; 20 Leads; Body Width 7.5 mm)
signal-integrity model SN74ABT2240ADW
pins on every part: 10 GND (power) hidden to GND, 20 VCC (power) hidden to VCC
part A pins: 1 ~{OE} (in), 2 A1 (in), 4 A2 (in), 6 A3 (in), 8 A4 (in), 12 Y4 (hiz), 14 Y3 (hiz), 16 Y2 (hiz), 18 Y1 (hiz)
part B pins: 3 Y4 (hiz), 5 Y3 (hiz), 7 Y2 (hiz), 9 Y1 (hiz), 11 A1 (in), 13 A2 (in), 15 A3 (in), 17 A4 (in), 19 ~{OE} (in)

## SN74ABT2240AN
designator U?
Octal Buffer and Line/MOS Driver with 3-State Outputs; Package Information: Latest Revision: Oct-1995; Published: 8-Jun-2000; Revision: 17-Jul-2002: Re-released for DXP Platform.; Datasheet: Latest Revision: Oct-1998; Package Reference: N020; Publisher: Altium Limited
footprint N020 (DIP; 20 Leads; Row Spacing 7.62 mm; Pitch 2.54 mm)
signal-integrity model SN74ABT2240AN
pins on every part: 10 GND (power) hidden to GND, 20 VCC (power) hidden to VCC
part A pins: 1 ~{OE} (in), 2 A1 (in), 4 A2 (in), 6 A3 (in), 8 A4 (in), 12 Y4 (hiz), 14 Y3 (hiz), 16 Y2 (hiz), 18 Y1 (hiz)
part B pins: 3 Y4 (hiz), 5 Y3 (hiz), 7 Y2 (hiz), 9 Y1 (hiz), 11 A1 (in), 13 A2 (in), 15 A3 (in), 17 A4 (in), 19 ~{OE} (in)

## SN74ABT2240APWLE
designator U?
Octal Buffer and Line/MOS Driver with 3-State Outputs; Package Information: Latest Revision: Feb-1999; Published: 8-Jun-2000; Revision: 17-Jul-2002: Re-released for DXP Platform.; Datasheet: Latest Revision: Oct-1998; Package Reference: PW020; Publisher: Altium Limited
footprint PW020 (Shrink Small Outline; 20 Leads; Body Width 4.4 mm; Pitch 0.65 mm)
signal-integrity model SN74ABT2240APWLE
pins on every part: 10 GND (power) hidden to GND, 20 VCC (power) hidden to VCC
part A pins: 1 ~{OE} (in), 2 A1 (in), 4 A2 (in), 6 A3 (in), 8 A4 (in), 12 Y4 (hiz), 14 Y3 (hiz), 16 Y2 (hiz), 18 Y1 (hiz)
part B pins: 3 Y4 (hiz), 5 Y3 (hiz), 7 Y2 (hiz), 9 Y1 (hiz), 11 A1 (in), 13 A2 (in), 15 A3 (in), 17 A4 (in), 19 ~{OE} (in)

## SN74ABT2240DB
designator U?
Octal Buffer and Line/MOS Driver with 3-State Outputs; Package Information: Latest Revision: May-1999; Code - JEDEC: MO-150-AE; Published: 8-Jun-2000; Revision: 17-Jul-2002: Re-released for DXP Platform.; Datasheet: Latest Revision: Jul-1994; Package Reference: DB020; Publisher: Altium Limited
footprint DB020 (Plastic SSOP; 20 Leads; Body Width 5.3 mm; Pitch 0.65 mm)
signal-integrity model SN74ABT2240DB
pins on every part: 10 GND (power) hidden to GND, 20 VCC (power) hidden to VCC
part A pins: 1 ~{OE} (in), 2 A1 (in), 4 A2 (in), 6 A3 (in), 8 A4 (in), 12 Y4 (hiz), 14 Y3 (hiz), 16 Y2 (hiz), 18 Y1 (hiz)
part B pins: 3 Y4 (hiz), 5 Y3 (hiz), 7 Y2 (hiz), 9 Y1 (hiz), 11 A1 (in), 13 A2 (in), 15 A3 (in), 17 A4 (in), 19 ~{OE} (in)

## SN74ABT2240DW
designator U?
Octal Buffer and Line/MOS Driver with 3-State Outputs; Package Information: Latest Revision: Mar-2000; Code - JEDEC: MS-013; Published: 8-Jun-2000; Revision: 17-Jul-2002: Re-released for DXP Platform.; Datasheet: Latest Revision: Jul-1994; Package Reference: DW020; Publisher: Altium Limited
footprint DW020 (Plastic Small Outline; 20 Leads; Body Width 7.5 mm)
signal-integrity model SN74ABT2240DW
pins on every part: 10 GND (power) hidden to GND, 20 VCC (power) hidden to VCC
part A pins: 1 ~{OE} (in), 2 A1 (in), 4 A2 (in), 6 A3 (in), 8 A4 (in), 12 Y4 (hiz), 14 Y3 (hiz), 16 Y2 (hiz), 18 Y1 (hiz)
part B pins: 3 Y4 (hiz), 5 Y3 (hiz), 7 Y2 (hiz), 9 Y1 (hiz), 11 A1 (in), 13 A2 (in), 15 A3 (in), 17 A4 (in), 19 ~{OE} (in)

## SN74ABT2240N
designator U?
Octal Buffer and Line/MOS Driver with 3-State Outputs; Package Information: Latest Revision: Oct-1995; Published: 8-Jun-2000; Revision: 17-Jul-2002: Re-released for DXP Platform.; Datasheet: Latest Revision: Jul-1994; Package Reference: N020C; Publisher: Altium Limited
footprint N020C (DIP; 20 Leads; Row Spacing 7.62 mm; Pitch 2.54 mm)
signal-integrity model SN74ABT2240N
pins on every part: 10 GND (power) hidden to GND, 20 VCC (power) hidden to VCC
part A pins: 1 ~{OE} (in), 2 A1 (in), 4 A2 (in), 6 A3 (in), 8 A4 (in), 12 Y4 (hiz), 14 Y3 (hiz), 16 Y2 (hiz), 18 Y1 (hiz)
part B pins: 3 Y4 (hiz), 5 Y3 (hiz), 7 Y2 (hiz), 9 Y1 (hiz), 11 A1 (in), 13 A2 (in), 15 A3 (in), 17 A4 (in), 19 ~{OE} (in)

## SN74ABT2241DB
designator U?
Octal Buffer and Line/MOS Driver with 3-State Outputs; Package Information: Latest Revision: May-1999; Code - JEDEC: MO-150-AE; Published: 8-Jun-2000; Revision: 17-Jul-2002: Re-released for DXP Platform.; Datasheet: Latest Revision: Jan-1997; Package Reference: DB020; Publisher: Altium Limited
footprint DB020 (Plastic SSOP; 20 Leads; Body Width 5.3 mm; Pitch 0.65 mm)
signal-integrity model SN74ABT2241DB
pins on every part: 10 GND (power) hidden to GND, 20 VCC (power) hidden to VCC
part A pins: 1 ~{OE} (in), 2 A1 (in), 4 A2 (in), 6 A3 (in), 8 A4 (in), 12 Y4 (hiz), 14 Y3 (hiz), 16 Y2 (hiz), 18 Y1 (hiz)
part B pins: 3 Y4 (hiz), 5 Y3 (hiz), 7 Y2 (hiz), 9 Y1 (hiz), 11 A1 (in), 13 A2 (in), 15 A3 (in), 17 A4 (in), 19 ~{OE} (in)

## SN74ABT2241DW
designator U?
Octal Buffer and Line/MOS Driver with 3-State Outputs; Package Information: Latest Revision: Mar-2000; Code - JEDEC: MS-013; Published: 8-Jun-2000; Revision: 17-Jul-2002: Re-released for DXP Platform.; Datasheet: Latest Revision: Jan-1997; Package Reference: DW020; Publisher: Altium Limited
footprint DW020 (Plastic Small Outline; 20 Leads; Body Width 7.5 mm)
signal-integrity model SN74ABT2241DW
pins on every part: 10 GND (power) hidden to GND, 20 VCC (power) hidden to VCC
part A pins: 1 ~{OE} (in), 2 A1 (in), 4 A2 (in), 6 A3 (in), 8 A4 (in), 12 Y4 (hiz), 14 Y3 (hiz), 16 Y2 (hiz), 18 Y1 (hiz)
part B pins: 3 Y4 (hiz), 5 Y3 (hiz), 7 Y2 (hiz), 9 Y1 (hiz), 11 A1 (in), 13 A2 (in), 15 A3 (in), 17 A4 (in), 19 ~{OE} (in)

## SN74ABT2241N
designator U?
Octal Buffer and Line/MOS Driver with 3-State Outputs; Package Information: Latest Revision: Oct-1995; Published: 8-Jun-2000; Revision: 17-Jul-2002: Re-released for DXP Platform.; Datasheet: Latest Revision: Jan-1997; Package Reference: N020C; Publisher: Altium Limited
footprint N020C (DIP; 20 Leads; Row Spacing 7.62 mm; Pitch 2.54 mm)
signal-integrity model SN74ABT2241N
pins on every part: 10 GND (power) hidden to GND, 20 VCC (power) hidden to VCC
part A pins: 1 ~{OE} (in), 2 A1 (in), 4 A2 (in), 6 A3 (in), 8 A4 (in), 12 Y4 (hiz), 14 Y3 (hiz), 16 Y2 (hiz), 18 Y1 (hiz)
part B pins: 3 Y4 (hiz), 5 Y3 (hiz), 7 Y2 (hiz), 9 Y1 (hiz), 11 A1 (in), 13 A2 (in), 15 A3 (in), 17 A4 (in), 19 ~{OE} (in)

## SN74ABT2244APWLE
designator U?
Octal Buffer and Line/MOS Driver with 3-State Outputs; Package Information: Latest Revision: Feb-1999; Published: 8-Jun-2000; Revision: 17-Jul-2002: Re-released for DXP Platform.; Datasheet: Latest Revision: May-1997; Package Reference: PW020; Publisher: Altium Limited
footprint PW020 (Shrink Small Outline; 20 Leads; Body Width 4.4 mm; Pitch 0.65 mm)
signal-integrity model SN74ABT2244APWLE
pins on every part: 10 GND (power) hidden to GND, 20 VCC (power) hidden to VCC
part A pins: 1 ~{OE} (in), 2 A1 (in), 4 A2 (in), 6 A3 (in), 8 A4 (in), 12 Y4 (hiz), 14 Y3 (hiz), 16 Y2 (hiz), 18 Y1 (hiz)
part B pins: 3 Y4 (hiz), 5 Y3 (hiz), 7 Y2 (hiz), 9 Y1 (hiz), 11 A1 (in), 13 A2 (in), 15 A3 (in), 17 A4 (in), 19 ~{OE} (in)

## SN74ABT2827DW
designator U?
10-Bit Buffer/Driver with 3-State Outputs; Package Information: Latest Revision: Mar-2000; Code - JEDEC: MS-013; Published: 8-Jun-2000; Revision: 17-Jul-2002: Re-released for DXP Platform.; Datasheet: Latest Revision: Jan-1997; Package Reference: DW024; Publisher: Altium Limited
footprint DW024 (Plastic Small Outline; 24 Leads; Body Width 7.5 mm)
signal-integrity model SN74ABT2827DW
pins: 1 ~{OE}1 (in), 2 A1 (in), 3 A2 (in), 4 A3 (in), 5 A4 (in), 6 A5 (in), 7 A6 (in), 8 A7 (in), 9 A8 (in), 10 A9 (in), 11 A10 (in), 12 GND (power), 13 ~{OE}2 (in), 14 Y10 (hiz), 15 Y9 (hiz), 16 Y8 (hiz), 17 Y7 (hiz), 18 Y6 (hiz), 19 Y5 (hiz), 20 Y4 (hiz), 21 Y3 (hiz), 22 Y2 (hiz), 23 Y1 (hiz), 24 VCC (power)

## SN74ABT2827NT
designator U?
10-Bit Buffer/Driver with 3-State Outputs; Package Information: Latest Revision: Oct-1994; Code - JEDEC: MS-001-AF; Published: 8-Jun-2000; Revision: 17-Jul-2002: Re-released for DXP Platform.; Datasheet: Latest Revision: Jan-1997; Package Reference: NT024; Publisher: Altium Limited
footprint NT024 (DIP; 24 Leads; Row Spacing 7.62 mm; Pitch 2.54 mm)
signal-integrity model SN74ABT2827NT
pins: 1 ~{OE}1 (in), 2 A1 (in), 3 A2 (in), 4 A3 (in), 5 A4 (in), 6 A5 (in), 7 A6 (in), 8 A7 (in), 9 A8 (in), 10 A9 (in), 11 A10 (in), 12 GND (power), 13 ~{OE}2 (in), 14 Y10 (hiz), 15 Y9 (hiz), 16 Y8 (hiz), 17 Y7 (hiz), 18 Y6 (hiz), 19 Y5 (hiz), 20 Y4 (hiz), 21 Y3 (hiz), 22 Y2 (hiz), 23 Y1 (hiz), 24 VCC (power)

## SN74ABT5400ADW
designator U?
11-Bit Line/Memory Driver with 3-State Outputs; Package Information: Latest Revision: Mar-2000; Code - JEDEC: MS-013; Published: 8-Jun-2000; Revision: 17-Jul-2002: Re-released for DXP Platform.; Datasheet: Latest Revision: May-1997; Package Reference: DW028; Publisher: Altium Limited
footprint DW028 (Plastic Small Outline; 28 Leads; Body Width 7.5 mm)
signal-integrity model SN74ABT5400ADW
pins: 1 Y1 (hiz), 2 Y2 (hiz), 3 Y3 (hiz), 4 Y4 (hiz), 5 Y5 (hiz), 6 Y6 (hiz), 7 GND (power), 8 GND (power), 9 Y7 (hiz), 10 Y8 (hiz), 11 Y9 (hiz), 12 Y10 (hiz), 13 Y11 (hiz), 14 ~{OE}1 (in), 15 ~{OE}2 (in), 16 D11 (in), 17 D10 (in), 18 D9 (in), 19 D8 (in), 20 D7 (in), 21 VCC (power), 22 VCC (power), 23 D6 (in), 24 D5 (in), 25 D4 (in), 26 D3 (in), 27 D2 (in), 28 D1 (in)

## SN74ABT5400DW
designator U?
11-Bit Line/Memory Driver with 3-State Outputs; Package Information: Latest Revision: Mar-2000; Code - JEDEC: MS-013; Published: 8-Jun-2000; Revision: 17-Jul-2002: Re-released for DXP Platform.; Datasheet: Latest Revision: Jul-1994; Package Reference: DW028; Publisher: Altium Limited
footprint DW028 (Plastic Small Outline; 28 Leads; Body Width 7.5 mm)
signal-integrity model SN74ABT5400DW
pins: 1 Y1 (hiz), 2 Y2 (hiz), 3 Y3 (hiz), 4 Y4 (hiz), 5 Y5 (hiz), 6 Y6 (hiz), 7 GND (power), 8 GND (power), 9 Y7 (hiz), 10 Y8 (hiz), 11 Y9 (hiz), 12 Y10 (hiz), 13 Y11 (hiz), 14 ~{OE}1 (in), 15 ~{OE}2 (in), 16 D11 (in), 17 D10 (in), 18 D9 (in), 19 D8 (in), 20 D7 (in), 21 VCC (power), 22 VCC (power), 23 D6 (in), 24 D5 (in), 25 D4 (in), 26 D3 (in), 27 D2 (in), 28 D1 (in)

## SN74ABT5401DW
designator U?
11-Bit Line/Memory Driver with 3-State Output; Package Information: Latest Revision: Mar-2000; Code - JEDEC: MS-013; Published: 8-Jun-2000; Revision: 17-Jul-2002: Re-released for DXP Platform.; Datasheet: Latest Revision: Jan-1997; Package Reference: DW028; Publisher: Altium Limited
footprint DW028 (Plastic Small Outline; 28 Leads; Body Width 7.5 mm)
signal-integrity model SN74ABT5401DW
pins: 1 ~{Y}1 (hiz), 2 ~{Y}2 (hiz), 3 ~{Y}3 (hiz), 4 ~{Y}4 (hiz), 5 ~{Y}5 (hiz), 6 ~{Y}6 (hiz), 7 GND (power), 8 GND (power), 9 ~{Y}7 (hiz), 10 ~{Y}8 (hiz), 11 ~{Y}9 (hiz), 12 ~{Y}10 (hiz), 13 ~{Y}11 (hiz), 14 ~{OE}1 (in), 15 ~{OE}2 (in), 16 D11 (in), 17 D10 (in), 18 D9 (in), 19 D8 (in), 20 D7 (in), 21 VCC (power), 22 VCC (power), 23 D6 (in), 24 D5 (in), 25 D4 (in), 26 D3 (in), 27 D2 (in), 28 D1 (in)

## SN74ABT5402ADW
designator U?
12-Bit Line/Memory Driver with 3-State Output; Package Information: Latest Revision: Mar-2000; Code - JEDEC: MS-013; Published: 8-Jun-2000; Revision: 17-Jul-2002: Re-released for DXP Platform.; Datasheet: Latest Revision: May-1997; Package Reference: DW028; Publisher: Altium Limited
footprint DW028 (Plastic Small Outline; 28 Leads; Body Width 7.5 mm)
signal-integrity model SN74ABT5402ADW
pins: 1 Y1 (hiz), 2 Y2 (hiz), 3 Y3 (hiz), 4 Y4 (hiz), 5 Y5 (hiz), 6 Y6 (hiz), 7 GND (power), 8 Y7 (hiz), 9 Y8 (hiz), 10 Y9 (hiz), 11 Y10 (hiz), 12 Y11 (hiz), 13 Y12 (hiz), 14 ~{OE}1 (in), 15 ~{OE}2 (in), 16 D12 (in), 17 D11 (in), 18 D10 (in), 19 D9 (in), 20 D8 (in), 21 VCC (power), 22 D7 (in), 23 D6 (in), 24 D5 (in), 25 D4 (in), 26 D3 (in), 27 D2 (in), 28 D1 (in)

## SN74ABT5402DW
designator U?
12-Bit Line/Memory Driver with 3-State Output; Package Information: Latest Revision: Mar-2000; Code - JEDEC: MS-013; Published: 8-Jun-2000; Revision: 17-Jul-2002: Re-released for DXP Platform.; Datasheet: Latest Revision: Jul-1994; Package Reference: DW028; Publisher: Altium Limited
footprint DW028 (Plastic Small Outline; 28 Leads; Body Width 7.5 mm)
signal-integrity model SN74ABT5402DW
pins: 1 Y1 (hiz), 2 Y2 (hiz), 3 Y3 (hiz), 4 Y4 (hiz), 5 Y5 (hiz), 6 Y6 (hiz), 7 GND (power), 8 Y7 (hiz), 9 Y8 (hiz), 10 Y9 (hiz), 11 Y10 (hiz), 12 Y11 (hiz), 13 Y12 (hiz), 14 ~{OE}1 (in), 15 ~{OE}2 (in), 16 D12 (in), 17 D11 (in), 18 D10 (in), 19 D9 (in), 20 D8 (in), 21 VCC (power), 22 D7 (in), 23 D6 (in), 24 D5 (in), 25 D4 (in), 26 D3 (in), 27 D2 (in), 28 D1 (in)

## SN74ABT5403DW
designator U?
12-Bit Line/Memory Driver with 3-State Output; Package Information: Latest Revision: Mar-2000; Code - JEDEC: MS-013; Published: 8-Jun-2000; Revision: 17-Jul-2002: Re-released for DXP Platform.; Datasheet: Latest Revision: Jan-1997; Package Reference: DW028; Publisher: Altium Limited
footprint DW028 (Plastic Small Outline; 28 Leads; Body Width 7.5 mm)
signal-integrity model SN74ABT5403DW
pins: 1 ~{Y}1 (hiz), 2 ~{Y}2 (hiz), 3 ~{Y}3 (hiz), 4 ~{Y}4 (hiz), 5 ~{Y}5 (hiz), 6 ~{Y}6 (hiz), 7 GND (power), 8 ~{Y}7 (hiz), 9 ~{Y}8 (hiz), 10 ~{Y}9 (hiz), 11 ~{Y}10 (hiz), 12 ~{Y}11 (hiz), 13 ~{Y}12 (hiz), 14 ~{OE}1 (in), 15 ~{OE}2 (in), 16 D12 (in), 17 D11 (in), 18 D10 (in), 19 D9 (in), 20 D8 (in), 21 VCC (power), 22 D7 (in), 23 D6 (in), 24 D5 (in), 25 D4 (in), 26 D3 (in), 27 D2 (in), 28 D1 (in)

## SN74ABT16240ADGGR
designator U?
16-Bit Buffer/Driver with 3-State Outputs; Package Information: Latest Revision: Jan-1998; Published: 8-Jun-2000; Revision: 17-Jul-2002: Re-released for DXP Platform.; Datasheet: Latest Revision: Oct-1998; Package Reference: DGG048; Publisher: Altium Limited
footprint DGG048 (Shrink Small Outline; 48 Leads; Body Width 6.1 mm; Pitch 0.5 mm)
signal-integrity model SN74ABT16240ADGGR
pins: 1 ~{OE}1 (in), 2 1Y1 (hiz), 3 1Y2 (hiz), 4 GND (power), 5 1Y3 (hiz), 6 1Y4 (hiz), 7 VCC (power), 8 2Y1 (hiz), 9 2Y2 (hiz), 10 GND (power), 11 2Y3 (hiz), 12 2Y4 (hiz), 13 3Y1 (hiz), 14 3Y2 (hiz), 15 GND (power), 16 3Y3 (hiz), 17 3Y4 (hiz), 18 VCC (power), 19 4Y1 (hiz), 20 4Y2 (hiz), 21 GND (power), 22 4Y3 (hiz), 23 4Y4 (hiz), 24 ~{OE}4 (in), 25 ~{OE}3 (in), 26 4A4 (in), 27 4A3 (in), 28 GND (power), 29 4A2 (in), 30 4A1 (in), 31 VCC (power), 32 3A4 (in), 33 3A3 (in), 34 GND (power), 35 3A2 (in), 36 3A1 (in), 37 2A4 (in), 38 2A3 (in), 39 GND (power), 40 2A2 (in), 41 2A1 (in), 42 VCC (power), 43 1A4 (in), 44 1A3 (in), 45 GND (power), 46 1A2 (in), 47 1A1 (in), 48 ~{OE}2 (in)

## SN74ABT16240ADGV
designator U?
16-Bit Buffer/Driver with 3-State Outputs; Package Information: Latest Revision: Mar-1999; Published: 8-Jun-2000; Revision: 17-Jul-2002: Re-released for DXP Platform.; Datasheet: Latest Revision: Oct-1998; Package Reference: DGV048; Publisher: Altium Limited
footprint DGV048 (Shrink Small Outline; 48 Leads; Body Width 4.4 mm; Pitch 0.4 mm)
signal-integrity model SN74ABT16240ADGV
pins: 1 ~{OE}1 (in), 2 1Y1 (hiz), 3 1Y2 (hiz), 4 GND (power), 5 1Y3 (hiz), 6 1Y4 (hiz), 7 VCC (power), 8 2Y1 (hiz), 9 2Y2 (hiz), 10 GND (power), 11 2Y3 (hiz), 12 2Y4 (hiz), 13 3Y1 (hiz), 14 3Y2 (hiz), 15 GND (power), 16 3Y3 (hiz), 17 3Y4 (hiz), 18 VCC (power), 19 4Y1 (hiz), 20 4Y2 (hiz), 21 GND (power), 22 4Y3 (hiz), 23 4Y4 (hiz), 24 ~{OE}4 (in), 25 ~{OE}3 (in), 26 4A4 (in), 27 4A3 (in), 28 GND (power), 29 4A2 (in), 30 4A1 (in), 31 VCC (power), 32 3A4 (in), 33 3A3 (in), 34 GND (power), 35 3A2 (in), 36 3A1 (in), 37 2A4 (in), 38 2A3 (in), 39 GND (power), 40 2A2 (in), 41 2A1 (in), 42 VCC (power), 43 1A4 (in), 44 1A3 (in), 45 GND (power), 46 1A2 (in), 47 1A1 (in), 48 ~{OE}2 (in)

## SN74ABT16240ADL
designator U?
16-Bit Buffer/Driver with 3-State Outputs; Package Information: Latest Revision: Jan-1998; Code - JEDEC: MO-118-AA; Code - IPC: SSO48; Published: 8-Jun-2000; Revision: 17-Jul-2002: Re-released for DXP Platform.; Datasheet: Latest Revision: Oct-1998; Package Reference: DL048; Publisher: Altium Limited
footprint DL048 (SSOP; 48 Leads; Body Width 7.5 mm; Pitch 0.635 mm)
signal-integrity model SN74ABT16240ADL
pins: 1 ~{OE}1 (in), 2 1Y1 (hiz), 3 1Y2 (hiz), 4 GND (power), 5 1Y3 (hiz), 6 1Y4 (hiz), 7 VCC (power), 8 2Y1 (hiz), 9 2Y2 (hiz), 10 GND (power), 11 2Y3 (hiz), 12 2Y4 (hiz), 13 3Y1 (hiz), 14 3Y2 (hiz), 15 GND (power), 16 3Y3 (hiz), 17 3Y4 (hiz), 18 VCC (power), 19 4Y1 (hiz), 20 4Y2 (hiz), 21 GND (power), 22 4Y3 (hiz), 23 4Y4 (hiz), 24 ~{OE}4 (in), 25 ~{OE}3 (in), 26 4A4 (in), 27 4A3 (in), 28 GND (power), 29 4A2 (in), 30 4A1 (in), 31 VCC (power), 32 3A4 (in), 33 3A3 (in), 34 GND (power), 35 3A2 (in), 36 3A1 (in), 37 2A4 (in), 38 2A3 (in), 39 GND (power), 40 2A2 (in), 41 2A1 (in), 42 VCC (power), 43 1A4 (in), 44 1A3 (in), 45 GND (power), 46 1A2 (in), 47 1A1 (in), 48 ~{OE}2 (in)

## SN74ABT16241ADGGR
designator U?
16-Bit Buffer/Driver with 3-State Outputs; Package Information: Latest Revision: Jan-1998; Published: 8-Jun-2000; Revision: 17-Jul-2002: Re-released for DXP Platform.; Datasheet: Latest Revision: Oct-1998; Package Reference: DGG048; Publisher: Altium Limited
footprint DGG048 (Shrink Small Outline; 48 Leads; Body Width 6.1 mm; Pitch 0.5 mm)
signal-integrity model SN74ABT16241ADGGR
pins: 1 ~{OE}1 (in), 2 1Y1 (hiz), 3 1Y2 (hiz), 4 GND (power), 5 1Y3 (hiz), 6 1Y4 (hiz), 7 VCC (power), 8 2Y1 (hiz), 9 2Y2 (hiz), 10 GND (power), 11 2Y3 (hiz), 12 2Y4 (hiz), 13 3Y1 (hiz), 14 3Y2 (hiz), 15 GND (power), 16 3Y3 (hiz), 17 3Y4 (hiz), 18 VCC (power), 19 4Y1 (hiz), 20 4Y2 (hiz), 21 GND (power), 22 4Y3 (hiz), 23 4Y4 (hiz), 24 ~{OE}4 (in), 25 ~{OE}3 (in), 26 4A4 (in), 27 4A3 (in), 28 GND (power), 29 4A2 (in), 30 4A1 (in), 31 VCC (power), 32 3A4 (in), 33 3A3 (in), 34 GND (power), 35 3A2 (in), 36 3A1 (in), 37 2A4 (in), 38 2A3 (in), 39 GND (power), 40 2A2 (in), 41 2A1 (in), 42 VCC (power), 43 1A4 (in), 44 1A3 (in), 45 GND (power), 46 1A2 (in), 47 1A1 (in), 48 ~{OE}2 (in)

## SN74ABT16241ADGV
designator U?
16-Bit Buffer/Driver with 3-State Outputs; Package Information: Latest Revision: Mar-1999; Published: 8-Jun-2000; Revision: 17-Jul-2002: Re-released for DXP Platform.; Datasheet: Latest Revision: Oct-1998; Package Reference: DGV048; Publisher: Altium Limited
footprint DGV048 (Shrink Small Outline; 48 Leads; Body Width 4.4 mm; Pitch 0.4 mm)
signal-integrity model SN74ABT16241ADGV
pins: 1 ~{OE}1 (in), 2 1Y1 (hiz), 3 1Y2 (hiz), 4 GND (power), 5 1Y3 (hiz), 6 1Y4 (hiz), 7 VCC (power), 8 2Y1 (hiz), 9 2Y2 (hiz), 10 GND (power), 11 2Y3 (hiz), 12 2Y4 (hiz), 13 3Y1 (hiz), 14 3Y2 (hiz), 15 GND (power), 16 3Y3 (hiz), 17 3Y4 (hiz), 18 VCC (power), 19 4Y1 (hiz), 20 4Y2 (hiz), 21 GND (power), 22 4Y3 (hiz), 23 4Y4 (hiz), 24 ~{OE}4 (in), 25 ~{OE}3 (in), 26 4A4 (in), 27 4A3 (in), 28 GND (power), 29 4A2 (in), 30 4A1 (in), 31 VCC (power), 32 3A4 (in), 33 3A3 (in), 34 GND (power), 35 3A2 (in), 36 3A1 (in), 37 2A4 (in), 38 2A3 (in), 39 GND (power), 40 2A2 (in), 41 2A1 (in), 42 VCC (power), 43 1A4 (in), 44 1A3 (in), 45 GND (power), 46 1A2 (in), 47 1A1 (in), 48 ~{OE}2 (in)